# EAGLE library part V321-3DIGIT-LCD (library vi321lcd)
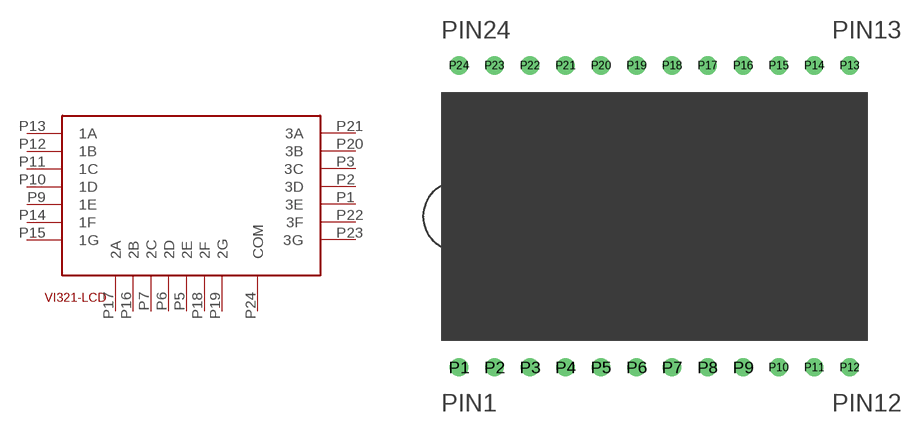
[diagram p0: symbol with the pads of VI321-3DIGIT-LCD; footprint VI321-3DIGIT-LCD]

Designator prefix -

## V321-3DIGIT-LCD  [VI321-3DIGIT-LCD]
P1  3E
P2  3D
P3  3C
P5  2E
P6  2D
P7  2C
P9  1E
P10  1D
P11  1C
P12  1B
P13  1A
P14  1F
P15  1G
P16  2B
P17  2A
P18  2F
P19  2G
P20  3B
P21  3A
P22  3F
P23  3G
P24  COM

## Footprint VI321-3DIGIT-LCD (pad centres in mm)
drill 0.8: P1 -13.97,-10.795; P2 -11.43,-10.795; P3 -8.89,-10.795; P4 -6.35,-10.795; P5 -3.81,-10.795; P6 -1.27,-10.795; P7 1.27,-10.795; P8 3.81,-10.795; P9 6.35,-10.795; P10 8.89,-10.795; P11 11.43,-10.795; P12 13.97,-10.795; P13 13.97,10.795; P14 11.43,10.795; P15 8.89,10.795; P16 6.35,10.795; P17 3.81,10.795; P18 1.27,10.795; P19 -1.27,10.795; P20 -3.81,10.795; P21 -6.35,10.795; P22 -8.89,10.795; P23 -11.43,10.795; P24 -13.97,10.795